# Altium footprint library 0603_Chip_Resistor.PcbLib: 1 footprints
Each footprint in its own frame and in the unit in brackets; x right, y up, seen from the top. Pads: shape width x height; smd on the part's side, far side on the other; paste and mask are expansions set on the pad; w line width, h text height; cw(c..) or ccw(c..) is an arc to the next point about the centre after c.
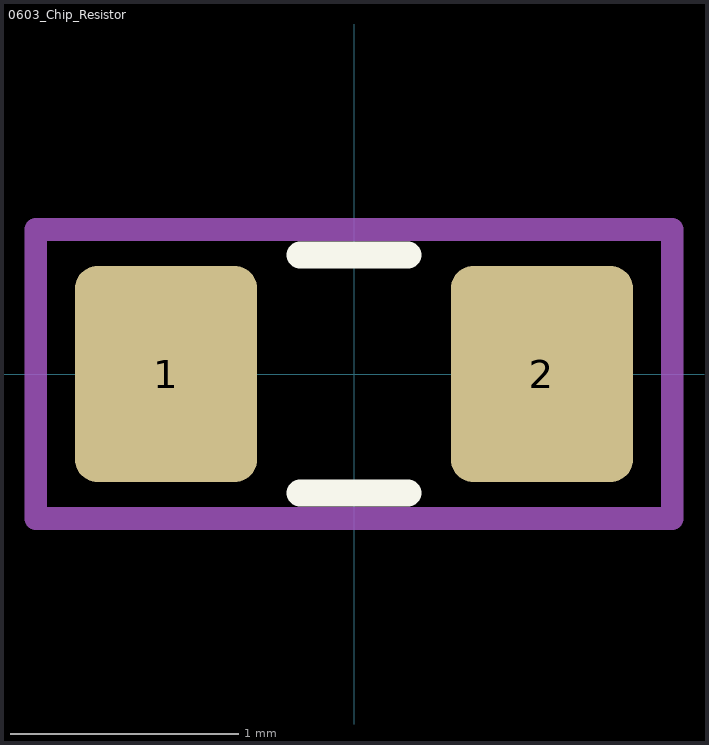
[diagram p0: the footprint, top view; thin cyan lines are the x and y axes]

## 0603_Chip_Resistor [mm]
pads (2):
  rrect25% 0.8x0.95 smd paste+0 mask+0.102: 1(-0.825,0) 2(0.825,0)
Top Overlay:
  lines w0.12: -0.237,-0.523 0.237,-0.523 ; -0.237,0.523 0.237,0.523
Mechanical 1:
  lines w0.1: -1.397,-0.635 1.397,-0.635 1.397,0.635 -1.397,0.635 -1.397,-0.635
  text ".Designator" at -0.381,-0.32 h1
Mechanical 15:
  text "+" at 0.5,-0.333 h1
3D body "R0603.step": height 0.43, standoff -0.02, extent -0.8,-0.4 0.8,0.4